# Altium integrated library ATSAM3X8EA-AU.IntLib: 1 symbol
Pins are listed as number, name and electrical type; pins without a type are passive.

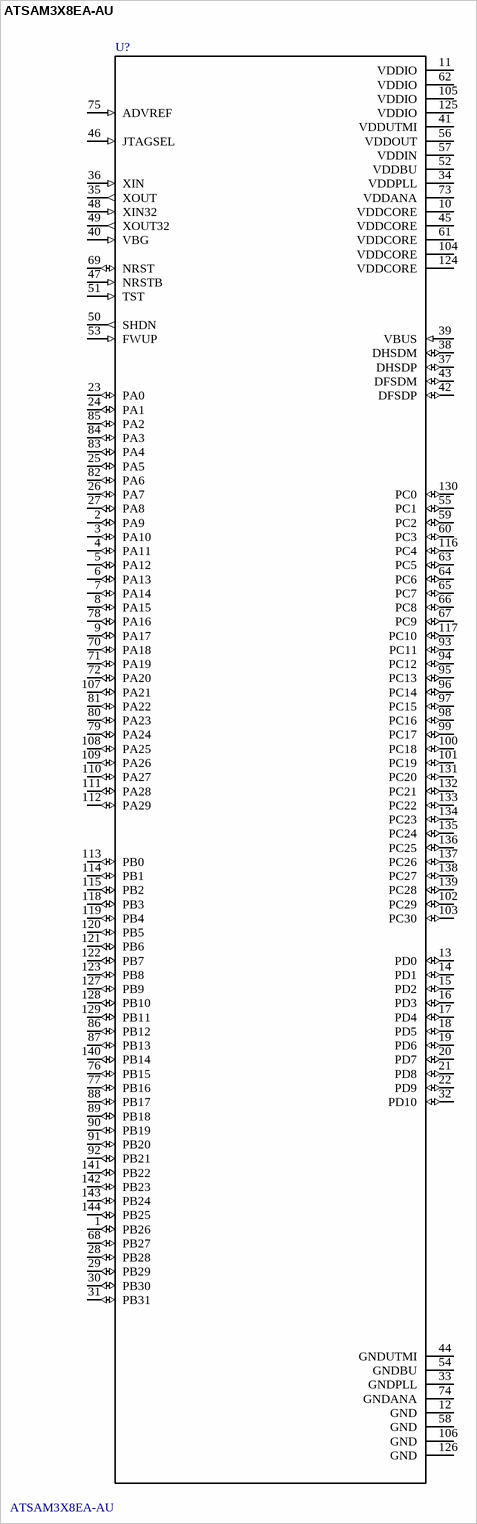
[diagram p0: symbol ATSAM3X8EA-AU]

## ATSAM3X8EA-AU
designator U?
Embedded microcontroller ATSAM3X8EA-AU LQFP 144 _20x20_ Microchip Technology 32-Bit 84 MHz I/O number 103; MF: Microchip; Package: LQFP-144 Microchip; Availability: Unavailable; SnapEDA_Link: https://www.snapeda.com/parts/ATSAM3X8EA-AU/Microchip/view-part/?ref=snap; MP: ATSAM3X8EA-AU; Price: None; Value: *
footprint QFP50P2200X2200X145-144N
pins: 1 PB26 (io), 2 PA9 (io), 3 PA10 (io), 4 PA11 (io), 5 PA12 (io), 6 PA13 (io), 7 PA14 (io), 8 PA15 (io), 9 PA17 (io), 10 VDDCORE (power), 11 VDDIO (power), 12 GND (power), 13 PD0 (io), 14 PD1 (io), 15 PD2 (io), 16 PD3 (io), 17 PD4 (io), 18 PD5 (io), 19 PD6 (io), 20 PD7 (io), 21 PD8 (io), 22 PD9 (io), 23 PA0 (io), 24 PA1 (io), 25 PA5 (io), 26 PA7 (io), 27 PA8 (io), 28 PB28 (io), 29 PB29 (io), 30 PB30 (io), 31 PB31 (io), 32 PD10 (io), 33 GNDPLL (power), 34 VDDPLL (power), 35 XOUT (out), 36 XIN (in), 37 DHSDP (io), 38 DHSDM (io), 39 VBUS (in), 40 VBG (in), 41 VDDUTMI (power), 42 DFSDP (io), 43 DFSDM (io), 44 GNDUTMI (power), 45 VDDCORE (power), 46 JTAGSEL (in), 47 NRSTB (in), 48 XIN32 (in), 49 XOUT32 (out), 50 SHDN (out), 51 TST (in), 52 VDDBU (power), 53 FWUP (in), 54 GNDBU (power), 55 PC1 (io), 56 VDDOUT (power), 57 VDDIN (power), 58 GND (power), 59 PC2 (io), 60 PC3 (io), 61 VDDCORE (power), 62 VDDIO (power), 63 PC5 (io), 64 PC6 (io), 65 PC7 (io), 66 PC8 (io), 67 PC9 (io), 68 PB27 (io), 69 NRST (io), 70 PA18 (io), 71 PA19 (io), 72 PA20 (io), 73 VDDANA (power), 74 GNDANA (power), 75 ADVREF (in), 76 PB15 (io), 77 PB16 (io), 78 PA16 (io), 79 PA24 (io), 80 PA23 (io), 81 PA22 (io), 82 PA6 (io), 83 PA4 (io), 84 PA3 (io), 85 PA2 (io), 86 PB12 (io), 87 PB13 (io), 88 PB17 (io), 89 PB18 (io), 90 PB19 (io), 91 PB20 (io), 92 PB21 (io), 93 PC11 (io), 94 PC12 (io), 95 PC13 (io), 96 PC14 (io), 97 PC15 (io), 98 PC16 (io), 99 PC17 (io), 100 PC18 (io), 101 PC19 (io), 102 PC29 (io), 103 PC30 (io), 104 VDDCORE (power), 105 VDDIO (power), 106 GND (power), 107 PA21 (io), 108 PA25 (io), 109 PA26 (io), 110 PA27 (io), 111 PA28 (io), 112 PA29 (io), 113 PB0 (io), 114 PB1 (io), 115 PB2 (io), 116 PC4 (io), 117 PC10 (io), 118 PB3 (io), 119 PB4 (io), 120 PB5 (io), 121 PB6 (io), 122 PB7 (io), 123 PB8 (io), 124 VDDCORE (power), 125 VDDIO (power), 126 GND (power), 127 PB9 (io), 128 PB10 (io), 129 PB11 (io), 130 PC0 (io), 131 PC20 (io), 132 PC21 (io), 133 PC22 (io), 134 PC23 (io), 135 PC24 (io), 136 PC25 (io), 137 PC26 (io), 138 PC27 (io), 139 PC28 (io), 140 PB14 (io), 141 PB22 (io), 142 PB23 (io), 143 PB24 (io), 144 PB25 (io)